# EAGLE library part J3011 (library pulse-eng)
RJ45 PulseJack w/LEDs
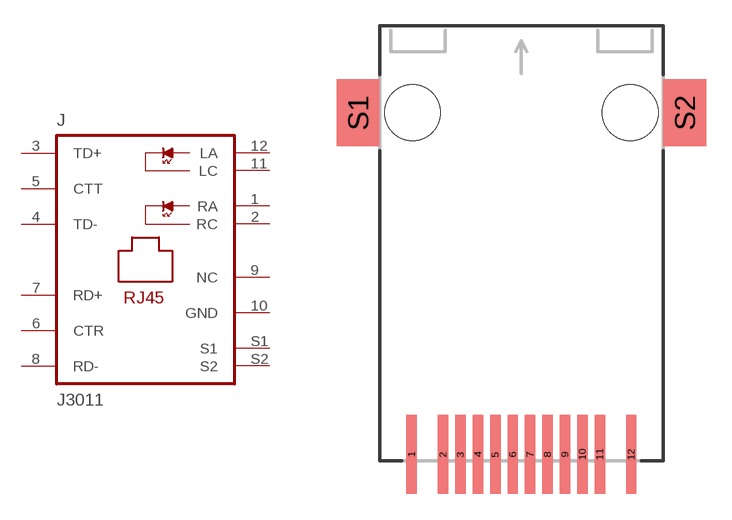
[diagram p4: symbol with the pads of J30; footprint J30]

Designator prefix J

## J3011  [J30]
1  RA  pas
2  RC  pas
3  TD+  pas
4  TD-  pas
5  CTT  pas
6  CTR  pas
7  RD+  pas
8  RD-  pas
9  NC  pas
10  GND  pas
11  LC  pas
12  LA  pas
S1  S1  pas
S2  S2  pas

## Footprint J30 (pad centres in mm)
J30 Series RJ45 with Ethernet Balun and LED's
smd 0.61 x 4.597: 1 -6.401,-19.939; 2 -4.572,-19.939; 3 -3.556,-19.939; 4 -2.54,-19.939; 5 -1.524,-19.939; 6 -0.508,-19.939; 7 0.508,-19.939; 8 1.524,-19.939; 9 2.54,-19.939; 10 3.556,-19.939; 11 4.572,-19.939; 12 6.401,-19.939
smd 2.489 x 3.912: S1 -9.525,0; S2 9.525,0
hole 3.251 at 6.35,0
hole 3.251 at -6.35,0